# Altium schematic symbol library 存储芯片.SchLib: 6 symbols
Pins are listed as number, name and electrical type; pins without a type are passive.

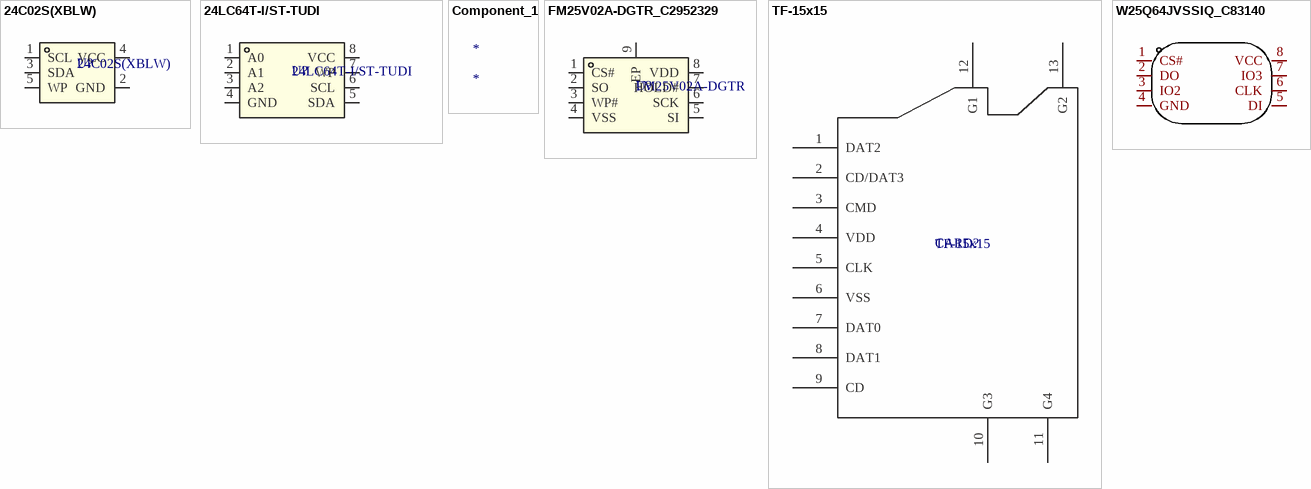
[diagram p0: symbols 24C02S(XBLW) to W25Q64JVSSIQ_C83140]

## 24C02S(XBLW)
designator U?
接口类型:I2C;存储容量:2Kbit;时钟频率(fc):1MHz;; Manufacturer: XBLW(芯伯乐); SEEX_AUTHOR: ref42; SEEX_COMPONENT_ID: C18723540; Access Time: 0.9us；0.55us; Clock Frequency: 1MHz; Data Retention - TDR (Year): 100年; Interface: I2C; Memory Size: 2Kbit; Operating Current: 3mA; Standby Current: 1uA; Voltage - Supply: 1.8V~5.5V; Write Cycle Endurance: 100万次; Write Cycle Time(Tw): 5ms; SEEX_PROJECT_URL: https://github.com/ref42/seex; Footprint: SOT-23-5_L3.0-W1.6-P0.95-LS2.8-BR; Datasheet: https://item.szlcsc.com/datasheet/24C02S(XBLW)/19916667.html; Features: 内置上电复位(POR)；硬件写保护功能；噪声抑制功能; JLCPCB Part Class: Extended Part; LCSC Part Name: 串行 EEPROM，CMOS 工艺，2 线接口，多封装，适配低压低功耗应用; Manufacturer Part: 24C02S(XBLW); Operating Temperature: -40℃~+85℃; Supplier: LCSC; Supplier Footprint: SOT23-5; Supplier Part: C18723540
footprint SOT-23-5_L3.0-W1.6-P0.95-LS2.8-BR (SOT-23-5; SOT-23A-5; -; TSOT-23-5; SC-74A,SOT-753; SC-74A(SOT-753); SOT-25-5; SOT-23-5L; SOT-23-Thin-5; SOT-23-5-THIN; SOT-25; SOT23-5; SOT-23-THIN; SOIC-8; SOT-23-5(MTP5))
pins: 1 SCL, 2 GND, 3 SDA, 4 VCC, 5 WP

## 24LC64T-I/ST-TUDI
designator U?
接口类型:I2C;存储容量:64Kbit;时钟频率(fc):400kHz;; Manufacturer: Tudi(钍地半导体); SEEX_AUTHOR: ref42; SEEX_COMPONENT_ID: C41411039; Access Time: 0.45us；0.9us; Clock Frequency: 400kHz; Data Retention - TDR (Year): 200年; Interface: I2C; Memory Size: 64Kbit; Operating Current: 0.28mA; Standby Current: 0.03uA; Voltage - Supply: 1.8V~5.5V; Write Cycle Endurance: 100万次; Write Cycle Time(Tw): 3ms; SEEX_PROJECT_URL: https://github.com/ref42/seex; Footprint: TSSOP-8_L4.4-W3.0-P0.65-LS6.4-BL; Datasheet: https://item.szlcsc.com/datasheet/24LC64T-I%252FST-TUDI/43220440.html; Features: 硬件写保护功能；噪声抑制功能; JLCPCB Part Class: Extended Part; LCSC Part Name: 24LC64T-I/ST-TUDI; Manufacturer Part: 24LC64T-I/ST-TUDI; Operating Temperature: -40℃~+85℃; Supplier: LCSC; Supplier Footprint: TSSOP-8; Supplier Part: C41411039
footprint TSSOP-8_L4.4-W3.0-P0.65-LS6.4-BL (-; TSSOP-8; TSSOP-8-3.0mm; SSOP-8-4.4mm; TSSOP-8-4.4mm; TSSOP-8-3.5mm; TSSOP-8-3mm; SOT-23-5; SC-70-5; SSOP-8-B; TSSOP-8(3x4.4x0.65); VSSOP-8-3mm; TSSOP-8L; DIP-8; SMD; TSSOP; TSSOP-8(3x4.4x0.65mm); TSSOP-8_3x4.4x065P; SSOP-8_L4.4-W3.0-P0.65-LS6.4; TSSOP(PW); TSSOP-8_L4.4-W3.0-P0.65-LS6.4-BL; TSSOP-8_L4.4-W3.0-P0.65-LS6.4; SSOP-8; TSSOP8; TSSOP8L; TSSop-8; TSSOP-8-BJ; TSSOP-8-B; PSOP-8; TSSOP-14; TSSOP-8_4.4x3mm_P0.65mm; TSSOP8_-173mil; SOP-8; MSOP-8; SOIC-8)
pins: 1 A0, 2 A1, 3 A2, 4 GND, 5 SDA, 6 SCL, 7 WP, 8 VCC

## Component_1
designator *

## FM25V02A-DGTR_C2952329
designator U?, comment FM25V02A-DGTR
接口类型:SPI;存储容量:256Kbit;时钟频率(fc):40MHz;待机电流:90uA;; Manufacturer: Infineon/CYPRESS(赛普拉斯); SEEX_AUTHOR: ref42; SEEX_COMPONENT_ID: C2952329; Clock Frequency: 40MHz; Current - Supply: 2.5mA; Data Retention - TDR (Year): 151年; Interface: SPI; Program / Erase Cycles: 100000000000000次; Sleep mode current (Izz): 8uA; Standby Current(Isb): 90uA; Voltage - Supply: 2V~3.6V; SEEX_PROJECT_URL: https://github.com/ref42/seex; Footprint: DFN-8_L4.5-W4.0-P0.95-TL-EP; Datasheet: https://item.szlcsc.com/datasheet/FM25V02A-DGTR/3338607.html; Features: 工作状态指示; JLCPCB Part Class: Extended Part; LCSC Part Name: 256-Kbit 串行 F-RAM; Manufacturer Part: FM25V02A-DGTR; Memory Size: 256Kbit; Operating Temperature: -40℃~+85℃; Supplier: LCSC; Supplier Footprint: WDFN-8-EP; Supplier Part: C2952329
footprint DFN-8_L4.5-W4.0-P0.95-TL-EP (DFN-8(4.5x4); TDFN-8(4x4.5); WDFN-8-EP; -)
pins: 1 CS#, 2 SO, 3 WP#, 4 VSS, 5 SI, 6 SCK, 7 HOLD#, 8 VDD, 9 EP

## TF-15x15
designator CARD?
卡连接方式:自弹式;卡类型:MicroSD卡(TF卡);连接器类型:卡座;本体最大高度:2mm;工作温度:-25℃~+85℃;; Manufacturer: SOFNG(硕方); SEEX_AUTHOR: ref42; SEEX_COMPONENT_ID: C111196; Additional Card Detection Pins: 有; Card Connection Mode: 自弹式; Connector Type: 卡座; SEEX_PROJECT_URL: https://github.com/ref42/seex; Footprint: TF-SMD_TF-15-15; Card Type: MicroSD卡(TF卡); Datasheet: https://item.szlcsc.com/datasheet/TF-15x15/112422.html; Height Above Board: 2mm; JLCPCB Part Class: Extended Part; LCSC Part Name: 自弹式 MicroSD卡(TF卡) 卡座; Manufacturer Part: TF-15x15; Operating Temperature: -25℃~+85℃; Supplier: LCSC; Supplier Footprint: SMD; Supplier Part: C111196
footprint TF-SMD_TF-15-15 (SMD; TFCARD; SIM-SMD)
pins: 1 DAT2, 2 CD/DAT3, 3 CMD, 4 VDD, 5 CLK, 6 VSS, 7 DAT0, 8 DAT1, 9 CD, 10 G3, 11 G4, 12 G1, 13 G2

## W25Q64JVSSIQ_C83140
designator U??  (value not drawn)
Manufacturer: WINBOND(华邦); Add into BOM: yes; Name: W25Q64JVSSIQ; Symbol: W25Q64JVSSIQ; Device: W25Q64JVSSIQ_C83140; LCSC Part Name: W25Q64JVSSIQ; Supplier Part: C83140; Manufacturer Part: W25Q64JVSSIQ; Supplier Footprint: SOP-8-208mil; JLCPCB Part Class: Extended Part; Datasheet: https://atta.szlcsc.com/upload/public/pdf/source/20161110/1478742546019.pdf; Supplier: LCSC; Convert to PCB: yes
footprint SOP-8_L5.3-W5.3-P1.27-LS8.0-BL
3D model SOP-8_L5.2-W5.3-H2.1-LS7.9-P1.27
pins: 1 CS#, 2 DO, 3 IO2, 4 GND, 5 DI, 6 CLK, 7 IO3, 8 VCC